# Altium footprint library special.PCBLIB: 77 footprints (part 4 of 5)
Each footprint in its own frame and in the unit in brackets; x right, y up, seen from the top. Pads: shape width x height; smd on the part's side, far side on the other; paste and mask are expansions set on the pad; w line width, h text height; cw(c..) or ccw(c..) is an arc to the next point about the centre after c.
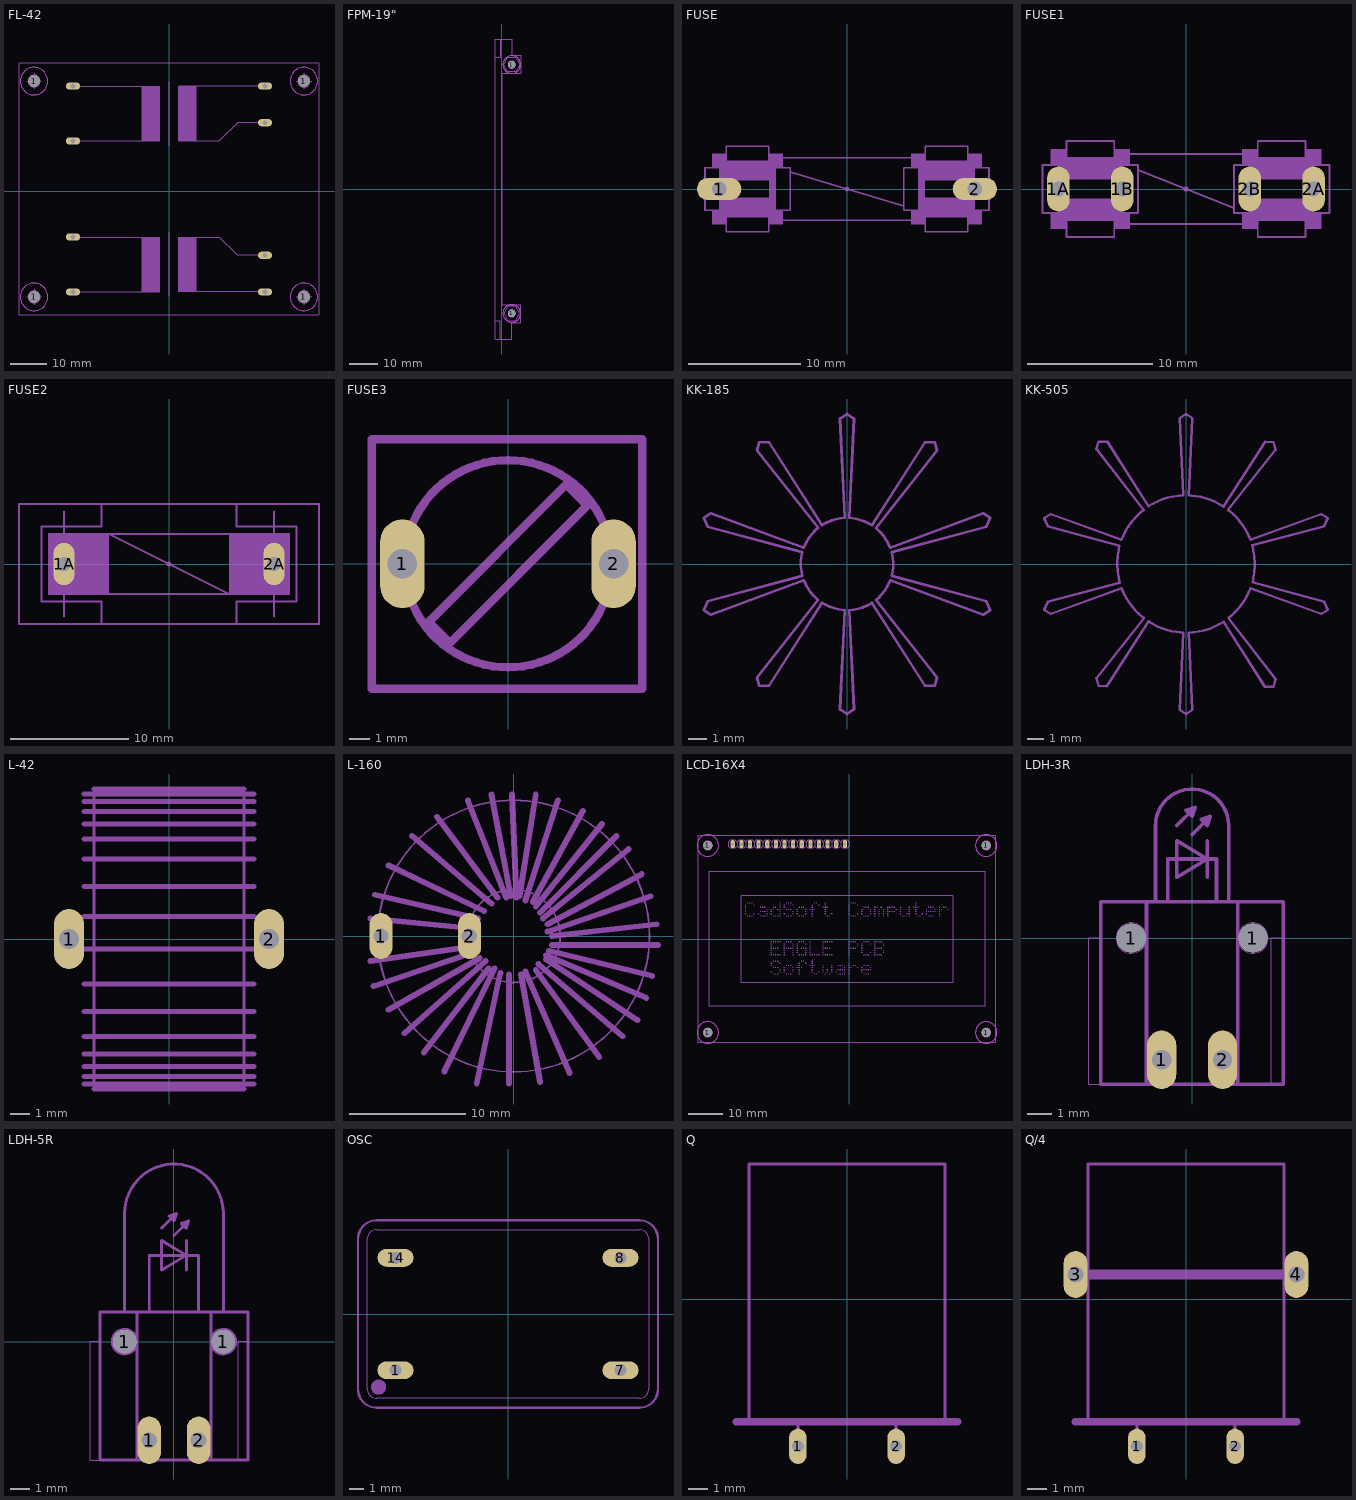
[diagram p3: the footprints below, top view; thin cyan lines are the x and y axes]

## FL-42 [mil]
pads (12):
  round 126 hole 126: 1(-1475,-1155) 1(-1475,1205) 1(1475,-1155) 1(1475,1205)
  oval 156x78 hole 52: 1(-1050,1150) 2(-1050,550) 3(-1050,-500) 4(-1050,-1100) 5(1050,1150) 6(1050,750) 7(1050,-700) 8(1050,-1100)
Mechanical 2:
  circle w6: c-1475,-1155 r67
  circle w6: c-1475,1205 r66
  circle w6: c1475,-1155 r67
  circle w6: c1475,1205 r67
  rectangle: 100,550 300,1150
  rectangle: -300,550 -100,1150
  rectangle: -300,-1100 -100,-500
  rectangle: 100,-1100 300,-500
  lines w6: -1555,-1155 -1395,-1155 ; -1555,1205 -1395,1205 ; -1475,-1240 -1475,-1070 ; -1475,1120 -1475,1290 ; -1000,-1100 -105,-1100 ; -1000,-500 -105,-500 ; -1000,550 -105,550 ; -1000,1150 -105,1150 ; 0,-1150 0,-450 ; 0,500 0,1200 ; 105,-1100 1000,-1100 ; 105,-500 550,-500 750,-700 1000,-700 ; 105,550 550,550 750,750 1000,750 ; 105,1150 1000,1150 ; 1390,-1155 1560,-1155 ; 1390,1205 1560,1205 ; 1475,-1240 1475,-1070 ; 1475,1120 1475,1290 ; -1640,-1350 1640,-1350 1640,1400 -1640,1400 -1640,-1350
Mechanical 11 keep-out:
  circle w0: c1475,1205 r150
  circle w0: c1475,-1155 r150
  circle w0: c-1475,-1155 r150
  circle w0: c-1475,1205 r150
Mechanical 12:
  circle w0: c1475,1205 r150
  circle w0: c1475,-1155 r150
  circle w0: c-1475,-1155 r150
  circle w0: c-1475,1205 r150

## FPM-19" [mil]
pads (2):
  round 104 hole 104: 1(140,-1750) 1(140,1750)
Mechanical 2:
  circle w2: c140,1750 r50
  circle w6: c140,-1750 r50
  lines w6: -90,-1850 -90,-2110 -20,-2110 ; -90,-1850 -20,-1850 -20,-2110 ; -90,-1850 -90,1850 ; -90,1850 -20,1850 -20,2110 ; -90,1850 -90,2110 -20,2110 ; -20,-2110 140,-2110 140,-1880 265,-1880 265,-1625 0,-1625 0,1625 265,1625 265,1880 140,1880 140,2110 -20,2110 ; 25,-1750 85,-1650 195,-1650 255,-1750 195,-1850 85,-1850 25,-1750 ; 25,1750 85,1650 195,1650 255,1750 195,1850 85,1850 25,1750
Mechanical 11 keep-out:
  circle w0: c140,-1750 r125
  circle w0: c140,1750 r125
Mechanical 12:
  circle w0: c140,-1750 r125
  circle w0: c140,1750 r125

## FUSE [mil]
pads (2):
  oval 156x78 hole 52: 1(-450,0) 2(450,0)
Mechanical 2:
  circle w6: c0,0 r5
  rectangle: -475,75 -425,125
  rectangle: -475,-125 -425,-75
  rectangle: -275,75 -225,125
  rectangle: -275,-125 -225,-75
  rectangle: -275,-100 -250,100
  rectangle: -425,30 -275,100
  rectangle: -425,-100 -275,-30
  rectangle: 225,75 275,125
  rectangle: 225,-125 275,-75
  rectangle: 250,-100 275,100
  rectangle: 425,75 475,125
  rectangle: 425,-125 475,-75
  rectangle: 275,30 425,100
  rectangle: 275,-100 425,-30
  lines w6: -450,-75 -500,-75 -500,75 -450,75 ; -425,-100 -425,-150 -275,-150 -275,-100 ; -425,100 -425,150 -275,150 -275,100 ; -250,-75 -200,-75 -200,60 ; -250,75 -200,75 -200,60 ; -225,-110 225,-110 ; -225,110 225,110 ; 250,-75 200,-75 200,-60 ; 250,75 200,75 200,-60 ; 275,-100 275,-150 425,-150 425,-100 ; 275,100 275,150 425,150 425,100 ; 450,-75 500,-75 500,75 450,75 ; -200,60 200,-60
Mechanical 18:
  rectangle: -450,-100 -425,100
  rectangle: 425,-100 450,100

## FUSE1 [mil]
pads (4):
  oval 70.5x141 hole 47: 1A(-400,0) 1B(-200,0) 2A(400,0) 2B(200,0)
Mechanical 2:
  circle w6: c0,0 r5
  rectangle: -425,75 -375,125
  rectangle: -425,-125 -375,-75
  rectangle: -225,75 -175,125
  rectangle: -225,-125 -175,-75
  rectangle: -225,-100 -200,100
  rectangle: -375,30 -225,100
  rectangle: -375,-100 -225,-30
  rectangle: 175,75 225,125
  rectangle: 175,-125 225,-75
  rectangle: 200,-100 225,100
  rectangle: 375,75 425,125
  rectangle: 375,-125 425,-75
  rectangle: 225,30 375,100
  rectangle: 225,-100 375,-30
  lines w6: -400,-75 -450,-75 -450,75 -400,75 ; -375,-100 -375,-150 -225,-150 -225,-100 ; -375,100 -375,150 -225,150 -225,100 ; -200,-75 -150,-75 -150,60 ; -200,75 -150,75 -150,60 ; -175,-110 175,-110 ; -175,110 175,110 ; 200,-75 150,-75 150,-60 ; 200,75 150,75 150,-60 ; 225,-100 225,-150 375,-150 375,-100 ; 225,100 225,150 375,150 375,100 ; 400,-75 450,-75 450,75 400,75 ; -150,60 150,-60
Mechanical 6:
  rectangle: -400,-100 -375,100
  rectangle: 375,-100 400,100

## FUSE2 [mil]
pads (2):
  oval 70.5x141 hole 47: 1A(-350,0) 2A(350,0)
Mechanical 2:
  circle w6: c0,0 r5
  lines w6: -350,-175 -350,-125 ; -350,100 -350,125 ; -350,175 -350,125 ; 350,-175 350,-125 ; 350,-100 350,-125 ; 350,100 350,125 ; 350,175 350,125 ; -350,-125 -425,-125 -425,125 -350,125 ; -350,-125 -350,-100 ; -350,-125 -225,-125 -225,-200 ; -350,-100 200,-100 ; -350,-100 -400,-100 -400,100 -200,100 ; -350,125 -225,125 -225,200 ; -225,-200 -500,-200 -500,200 -225,200 ; -225,-200 225,-200 ; -225,200 225,200 ; -200,100 200,-100 ; -200,100 400,100 400,-100 200,-100 ; 225,-200 500,-200 500,200 225,200 ; 225,-200 225,-125 350,-125 ; 225,200 225,125 350,125 ; 350,-125 425,-125 425,125 350,125
Mechanical 18:
  rectangle: -400,-100 -200,100
  rectangle: 200,-100 400,100

## FUSE3 [mil]
pads (2):
  oval 84x168 hole 56: 1(-200,0) 2(200,0)
Mechanical 2:
  lines w16: -185,-65 ccw(c0,0) 185,-65 ; -185,65 cw(c0,0) 185,65 ; -258,-237 -258,236 254,236 254,-237 -258,-237 ; -150,-110 -110,-150 150,110 110,150 -150,-110
Mechanical 18:
  lines w16: -185,-65 cw(c0,0) -185,65 ; 185,-65 ccw(c0,0) 185,65

## KK-185 [mil]
Mechanical 2:
  lines w6: -98,-26 -302,-81 -310,-100 -295,-110 -94,-35 ; -98,26 -302,81 -310,100 -295,110 -94,35 -88,47 -83,56 -76,65 -70,72 -63,78 ; -97,-25 -99,-13 -100,-3 -100,6 -99,16 -97,25 ; -93,-36 -91,-41 -88,-47 -83,-55 -79,-61 -73,-68 -63,-78 -195,-246 -190,-264 -169,-264 -55,-85 ; -63,79 -195,246 -190,264 -169,264 -55,85 ; -54,-84 -47,-88 -39,-92 -30,-95 -19,-98 -5,-100 -15,-315 0,-325 15,-315 5,-100 14,-99 25,-97 34,-94 44,-90 51,-86 54,-84 169,-264 190,-264 195,-246 63,-78 70,-72 76,-65 83,-56 88,-47 94,-35 295,-110 310,-100 302,-81 98,-26 ; -54,84 -51,86 -44,90 -34,94 -25,97 -14,99 -5,100 -15,315 0,325 15,315 5,100 19,98 30,95 39,92 47,88 54,84 ; 55,85 169,264 190,264 195,246 63,78 73,68 79,61 83,55 88,47 91,41 93,36 ; 94,35 295,110 310,100 302,81 98,26 ; 97,-25 99,-16 100,-6 100,3 99,13 97,25

## KK-505 [mil]
Mechanical 2:
  lines w6: -340,-110 -325,-120 -155,-58 -152,-64 -148,-73 -143,-82 -137,-92 -130,-101 -122,-111 -112,-121 -101,-130 -215,-274 -210,-292 -190,-293 -90,-138 -80,-144 -70,-149 -58,-154 -47,-158 -35,-161 -24,-163 -14,-164 -7,-165 -15,-350 0,-360 15,-350 7,-165 17,-164 32,-162 45,-159 57,-155 69,-150 79,-145 90,-139 189,-294 210,-294 215,-276 102,-130 110,-123 120,-113 129,-103 139,-89 146,-77 151,-67 155,-58 325,-120 340,-110 332,-91 160,-44 162,-32 164,-18 165,-6 165,2 164,17 162,31 160,40 159,45 332,91 340,110 325,120 155,58 152,64 148,73 143,82 137,92 130,101 122,111 112,121 101,130 215,274 210,292 190,293 90,138 80,144 70,149 58,154 47,158 35,161 24,163 14,164 7,165 15,350 0,360 -15,350 -7,165 -17,164 -32,162 -45,159 -57,155 -69,150 -79,145 -90,139 -189,294 -210,294 -215,276 -102,130 -110,123 -120,113 -129,103 -139,89 -146,77 -151,67 -155,58 -325,120 -340,110 -332,91 -160,44 -162,32 -164,18 -165,6 -165,-2 -164,-17 -162,-31 -160,-40 -159,-45 -332,-91 -340,-110

## L-42 [mil]
pads (2):
  oval 60x120 hole 40: 1(-200,0) 2(200,0)
Mechanical 2:
  lines w6: -150,-300 -150,300 ; 150,-300 150,300
  lines w10: -170,-290 170,-290 ; -170,-275 170,-275 ; -170,-255 170,-255 ; -170,-230 170,-230 ; -170,-195 170,-195 ; -170,-145 170,-145 ; -170,-90 170,-90 ; -170,-20 170,-20 ; -170,45 170,45 ; -170,105 170,105 ; -170,160 170,160 ; -170,200 170,200 ; -170,230 170,230 ; -170,255 170,255 ; -170,275 170,275 ; -170,290 170,290 ; -150,-300 150,-300 ; -150,300 150,300

## L-160 [mil]
pads (2):
  oval 78x156 hole 52: 1(-450,0) 2(-150,0)
Mechanical 2:
  lines w20: -425,-250 -115,-75 ; -425,240 -100,85 ; -370,-330 -95,-85 ; -345,340 -75,110 ; -305,-395 -85,-110 ; -260,405 -55,130 ; -235,-460 -65,-110 ; -155,460 -25,130 ; -125,-500 -45,-125 ; -75,480 -10,135 ; -15,-500 -15,-130 ; -5,480 10,130 ; 20,135 75,480 ; 25,-130 90,-495 ; 40,-120 190,-465 ; 40,120 150,460 ; 65,115 235,425 ; 75,-115 290,-410 ; 75,100 300,380 ; 85,-95 370,-340 ; 90,80 350,340 ; 100,60 390,295 ; 110,-80 420,-285 ; 110,-65 450,-210 ; 115,15 465,135 ; 115,40 435,210 ; 120,-50 470,-135 ; 130,-30 490,-30 ; 130,0 485,40
Mechanical 18:
  circle w6: c0,0 r461
  circle w6: c0,0 r158
  lines w20: -485,-85 -140,-35 ; -485,60 -130,25 ; -475,-170 -120,-50 ; -470,140 -120,60

## LCD-16X4 [mil]
pads (18):
  round 104 hole 104: 1(-1640,-1085) 1(-1640,1085) 1(1590,-1085) 1(1590,1085)
  oval 48x96 hole 32: 1(-1350,1100) 2(-1250,1100) 3(-1150,1100) 4(-1050,1100) 5(-950,1100) 6(-850,1100) 7(-750,1100) 8(-650,1100) 9(-550,1100) 10(-450,1100) 11(-350,1100) 12(-250,1100) 13(-150,1100) 14(-50,1100)
Mechanical 2:
  circle w6: c-1640,1085 r51
  circle w6: c1590,1085 r51
  circle w6: c1590,-1085 r51
  circle w6: c-1640,-1085 r51
  rectangle: -160,1090 -140,1110
  rectangle: -260,1090 -240,1110
  rectangle: -360,1090 -340,1110
  rectangle: -460,1090 -440,1110
  rectangle: -560,1090 -540,1110
  rectangle: -660,1090 -640,1110
  rectangle: -760,1090 -740,1110
  rectangle: -860,1090 -840,1110
  rectangle: -960,1090 -940,1110
  rectangle: -1060,1090 -1040,1110
  rectangle: -1160,1090 -1140,1110
  rectangle: -1260,1090 -1240,1110
  rectangle: -1360,1090 -1340,1110
  rectangle: -60,1090 -40,1110
  lines w6: -1300,1075 -1300,1125 ; -1300,1075 -1325,1050 -1375,1050 -1400,1075 -1400,1125 -1375,1150 -1325,1150 -1300,1125 ; -1300,1075 -1275,1050 -1225,1050 -1200,1075 ; -1300,1125 -1275,1150 -1225,1150 -1200,1125 ; -1200,1075 -1175,1050 -1125,1050 -1100,1075 ; -1200,1075 -1200,1125 ; -1200,1125 -1175,1150 -1125,1150 -1100,1125 ; -1100,1075 -1100,1125 ; -1100,1075 -1075,1050 -1025,1050 -1000,1075 ; -1100,1125 -1075,1150 -1025,1150 -1000,1125 ; -1000,1075 -1000,1125 ; -1000,1075 -975,1050 -925,1050 -900,1075 ; -1000,1125 -975,1150 -925,1150 -900,1125 ; -900,1075 -875,1050 -825,1050 -800,1075 ; -900,1075 -900,1125 ; -900,1125 -875,1150 -825,1150 -800,1125 ; -800,1075 -800,1125 ; -800,1075 -775,1050 -725,1050 -700,1075 ; -800,1125 -775,1150 -725,1150 -700,1125 ; -700,1075 -700,1125 ; -700,1075 -675,1050 -625,1050 -600,1075 ; -700,1125 -675,1150 -625,1150 -600,1125 ; -600,1075 -575,1050 -525,1050 -500,1075 ; -600,1075 -600,1125 ; -600,1125 -575,1150 -525,1150 -500,1125 ; -500,1075 -500,1125 ; -500,1075 -475,1050 -425,1050 -400,1075 ; -500,1125 -475,1150 -425,1150 -400,1125 ; -400,1075 -400,1125 ; -400,1075 -375,1050 -325,1050 -300,1075 ; -400,1125 -375,1150 -325,1150 -300,1125 ; -300,1075 -275,1050 -225,1050 -200,1075 ; -300,1075 -300,1125 ; -300,1125 -275,1150 -225,1150 -200,1125 ; -200,1075 -200,1125 ; -200,1075 -175,1050 -125,1050 -100,1075 ; -200,1125 -175,1150 -125,1150 -100,1125 ; -100,1075 -100,1125 ; -100,1075 -75,1050 -25,1050 0,1075 0,1125 -25,1150 -75,1150 -100,1125 ; -1750,-1200 -1750,1200 1700,1200 1700,-1200 -1750,-1200 ; -1630,-780 1580,-780 1580,785 -1630,785 -1630,-780 ; -1250,-500 1200,-500 1200,500 -1250,500 -1250,-500
Mechanical 11 keep-out:
  circle w0: c1590,1085 r125
  circle w0: c1590,-1085 r125
  circle w0: c-1640,-1085 r125
  circle w0: c-1640,1085 r125
Mechanical 12:
  circle w0: c1590,1085 r125
  circle w0: c1590,-1085 r125
  circle w0: c-1640,-1085 r125
  circle w0: c-1640,1085 r125
Mechanical 18:
  drawing of 419 lines, arcs and shapes, not listed

## LDH-3R [mil]
pads (4):
  round 48 hole 48: 1(-100,0) 1(100,0)
  oval 48x96 hole 32: 1(-50,-200) 2(50,-200)
Mechanical 2:
  circle w2: c100,0 r25
  circle w2: c-100,0 r25
  lines w2: -150,-240 -170,-240 -170,0 -150,0 ; 130,-240 130,0 150,0
  lines w6: -25,185 5,215 ; -5,210 0,205 ; 0,170 30,200 ; 20,195 25,190 ; 25,100 25,160 ; -60,60 -150,60 -150,0 -150,-240 130,-240 150,-240 150,0 150,60 60,60 ; -60,60 -60,185 cw(c0,185) 60,185 60,60 ; -60,60 -40,60 ; -40,60 -40,130 25,130 ; -40,60 40,60 ; 5,215 0,200 -10,210 5,215 ; 25,130 -25,100 -25,160 25,130 ; 25,130 40,130 40,60 ; 30,200 15,195 25,185 30,200 ; 40,60 60,60
Mechanical 18:
  lines w6: -75,-240 -75,60 ; 75,-240 75,60

## LDH-5R [mil]
pads (4):
  round 48 hole 48: 1(-100,0) 1(100,0)
  oval 48x96 hole 32: 1(-50,-200) 2(50,-200)
Mechanical 2:
  circle w6: c100,0 r25
  circle w6: c-100,0 r25
  lines w2: -150,-240 -170,-240 -170,0 -150,0 ; 130,-240 130,0 150,0
  lines w6: -25,230 5,260 ; -5,255 0,250 ; 0,215 30,245 ; 20,240 25,235 ; 25,145 25,205 ; -100,60 -100,260 cw(c0,260) 100,260 100,60 ; -100,60 -150,60 -150,0 -150,-240 130,-240 150,-240 150,0 150,60 100,60 ; -100,60 -50,60 ; -50,60 -50,175 25,175 ; -50,60 50,60 ; 5,260 0,245 -10,255 5,260 ; 25,175 -25,145 -25,205 25,175 ; 25,175 50,175 50,60 ; 30,245 15,240 25,230 30,245 ; 50,60 100,60
Mechanical 18:
  lines w6: -75,-240 -75,60 ; 75,-240 75,60

## OSC [mil]
pads (4):
  oval 96x48 hole 32: 1(-300,-150) 7(300,-150) 8(300,150) 14(-300,150)
Mechanical 2:
  circle w30: c-345,-195 r5
  rectangle: -350,-200 -340,-190
  lines w2: -375,-200 ccw(c-350,-200) -350,-225 350,-225 ccw(c350,-200) 375,-200 375,200 ccw(c350,200) 350,225 -350,225 ccw(c-350,200) -375,200 -375,-200
  lines w6: -400,-200 ccw(c-350,-200) -350,-250 350,-250 ccw(c350,-200) 400,-200 400,200 ccw(c350,200) 350,250 -350,250 ccw(c-350,200) -400,200 -400,-200

## Q [mil]
pads (2):
  oval 36x72 hole 24: 1(-100,-300) 2(100,-300)
Mechanical 2:
  lines w6: -200,-250 -200,275 200,275 200,-250 ; -100,-275 -100,-250 ; 100,-275 100,-250
  lines w16: -225,-250 -200,-250 -100,-250 100,-250 200,-250 225,-250

## Q/4 [mil]
pads (4):
  oval 36x72 hole 24: 1(-100,-300) 2(100,-300)
  oval 48x96 hole 32: 3(-225,50) 4(225,50)
Mechanical 2:
  lines w6: -200,-250 -200,275 200,275 200,-250 ; -100,-275 -100,-250 ; 100,-275 100,-250
  lines w16: -225,-250 -200,-250 -100,-250 100,-250 200,-250 225,-250
  lines w20: -195,50 195,50